# Altium schematic symbol library U_PCA9306.SchLib: 1 symbol
Pins are listed as number, name and electrical type; pins without a type are passive.

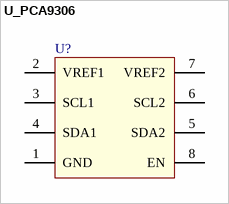
[diagram p0: symbol U_PCA9306]

## U_PCA9306
designator U?
pins: 1 GND, 2 VREF1, 3 SCL1, 4 SDA1, 5 SDA2, 6 SCL2, 7 VREF2, 8 EN